# Altium footprint library PcbLib.PcbLib: 37 footprints (part 2 of 3)
Each footprint in its own frame and in the unit in brackets; x right, y up, seen from the top. Pads: shape width x height; smd on the part's side, far side on the other; paste and mask are expansions set on the pad; w line width, h text height; cw(c..) or ccw(c..) is an arc to the next point about the centre after c.
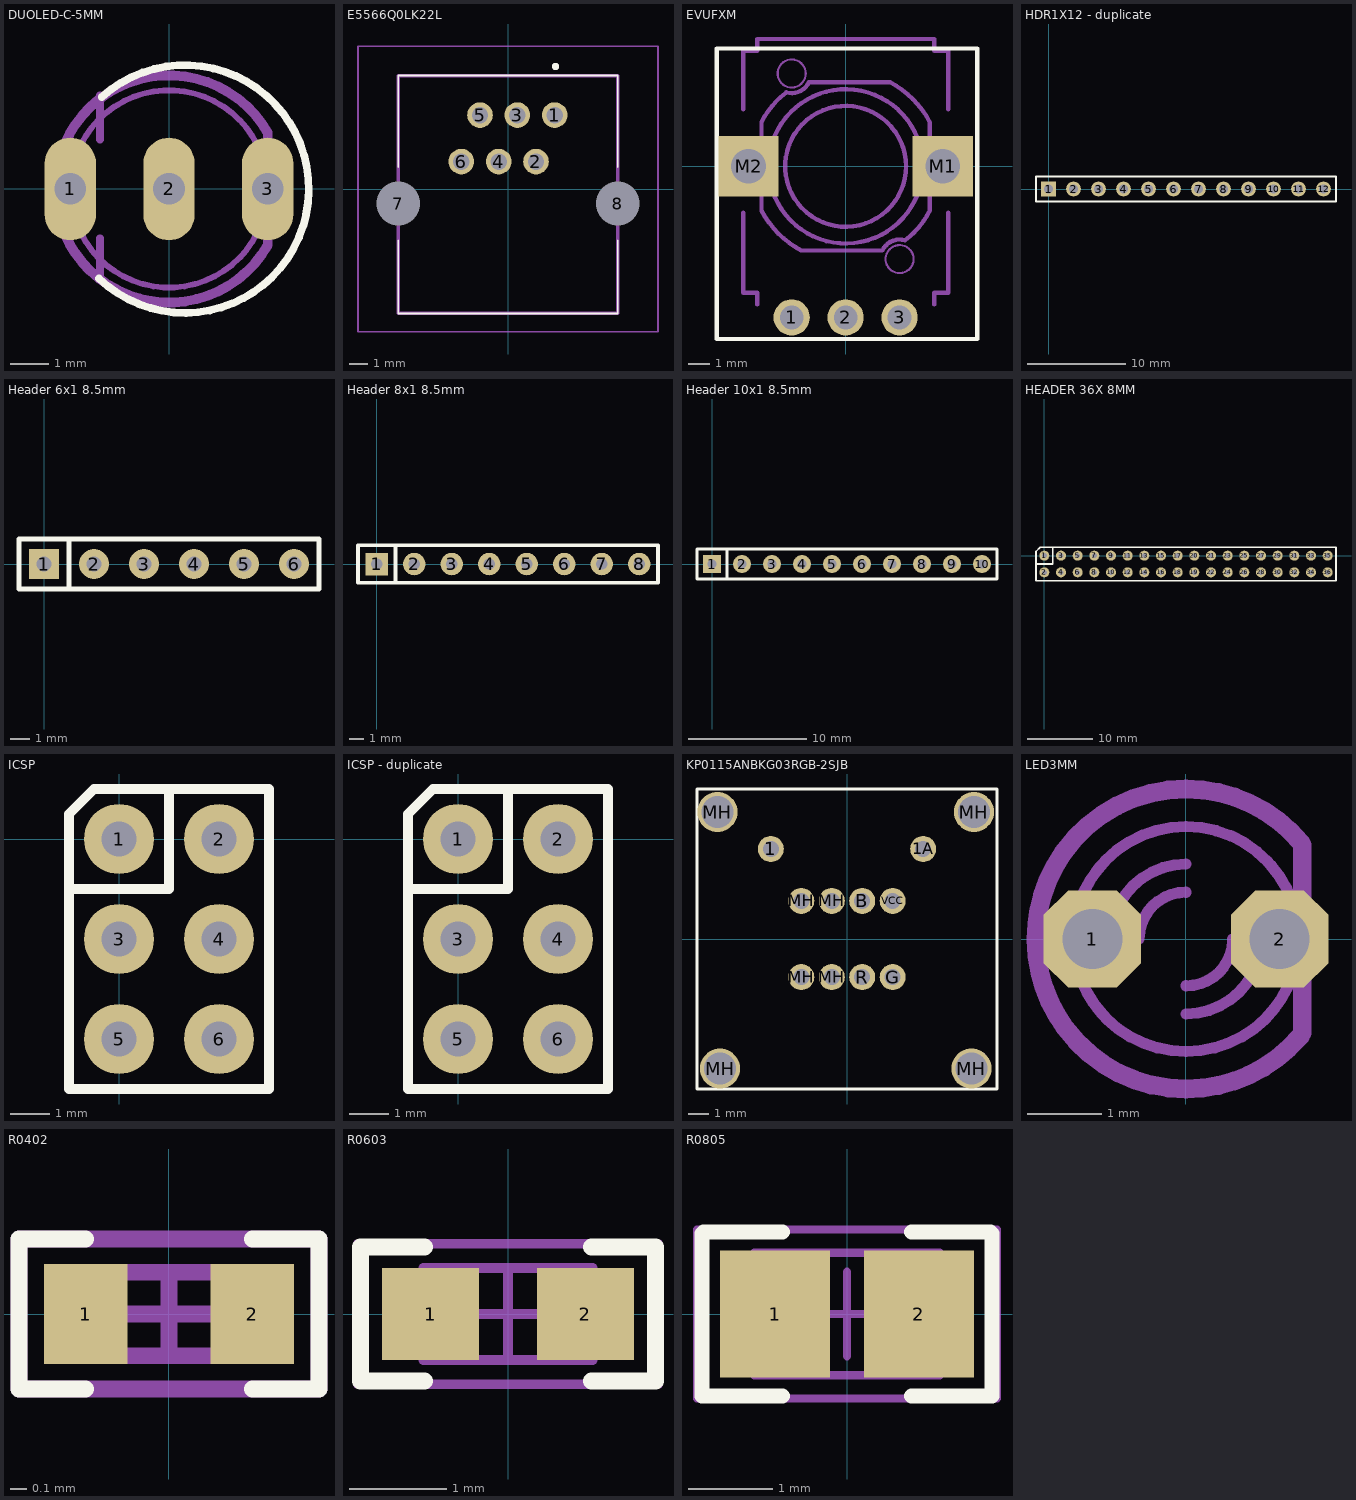
[diagram p1: the footprints below, top view; thin cyan lines are the x and y axes]

## DUOLED-C-5MM [mil] "DUOLED-C-5MM"
pads (3):
  oval 52x104 / inner round 60 / far side oval 52x104 hole 32: 1(-100,0) 2(0,0) 3(100,0)
Top Overlay:
  lines w7.87: -70.87,-90.7 ccw(c16.04,-0.1) -68.19,93
Mechanical 3:
  lines w7.87: -70,-90 -70,-50 ; -70,50 -70,95
Mechanical 7:
  lines w6: -94,-34 ccw(c0,0) 94,-34 ; -94,34 cw(c0,0) 94,34
  lines w10: -110,-34 ccw(c0,0.01) 100.03,-57.02 ; -109.97,33.99 cw(c0,0.01) 100,57 100,35 ; 100,-57 100,-35
3D body "59.STEP": height 496.06, standoff -807.09, extent -113.78,-116.04 116.14,116.03

## E5566Q0LK22L [mm]
pads (8):
  round 1.4 hole 0.9: 1(2.55,4.04) 2(1.53,1.5) 3(0.51,4.04) 4(-0.51,1.5) 5(-1.53,4.04) 6(-2.55,1.5)
  round 1.2 hole 2.4 unplated: 7(-6,-0.8) 8(6,-0.8)
Top Overlay:
  lines w0.1: -6,-2.8 -6,-6.8 6,-6.8 6,-2.8 ; -6,1.2 -6,6.2 6,6.2 6,1.2
  lines w0.2: 2.5,6.7 ccw(c2.6,6.7) 2.7,6.7 ccw(c2.6,6.7) 2.5,6.7
Mechanical 13:
  lines w0.2: -6,-6.8 -6,6.2 6,6.2 6,-6.8 -6,-6.8
Mechanical 15:
  lines w0.1: -8.2,-7.8 -8.2,7.8 8.2,7.8 8.2,-7.8 -8.2,-7.8
3D body "E5566-Q0LK22-L.stp": height 14.1, standoff -5, extent -7.091,-6.8 7.1,6.2

## EVUFXM [mil] "EVUFXM"
pads (5):
  round 66 / inner round 60 / far side round 66 hole 43.31: 1(-98.43,-275.59) 2(0,-275.59) 3(98.43,-275.59)
  rect 110.24x110.24 / inner rect 60x60 / far side rect 110.24x110.24 hole 62.99: M1(177.17,0) M2(-177.17,0)
Top Overlay:
  lines w7.87: -235,-315 -235,85 -235,215 240,215 240,-315 -235,-315
Mechanical 2:
  lines w0: -208.66,-41.34 -145.67,-41.34 -145.67,41.34 -208.66,41.34 -208.66,-41.34 ; 145.67,-41.34 208.66,-41.34 208.66,41.34 145.67,41.34 145.67,-41.34
Mechanical 7:
  circle w4: c98.43,-169.29 r25.59
  circle w8: c0,0 r110.24
  circle w8: c0,0 r140.75
  circle w4: c-98.43,169.29 r25.59
  lines w8: -187.01,-84.65 -187.01,-230.32 -161.42,-230.32 -161.42,-251.97 ; -187.01,104.33 -187.01,210.63 -161.42,210.63 -161.42,232.28 161.42,232.28 161.42,210.63 187.01,210.63 187.01,104.33 ; 161.42,-251.97 161.42,-230.32 187.01,-230.32 187.01,-84.65 ; -153.54,-80.71 ccw(c-0.01,-0.01) -80.71,-153.54 66.93,-153.54 cw(c98.73,-168.8) 108.27,-134.84 ccw(c12.25,-8.54) 153.54,-80.71 153.54,80.71 ccw(c0.01,0.01) 80.71,153.54 -66.93,153.54 cw(c-98.73,168.8) -108.27,134.84 ccw(c-12.25,8.54) -153.54,80.71 -153.54,-80.71
3D body "ALPHA-RD901F-40.step": height 1182.85, standoff -141.73, extent -227.07,-279.98 226.81,206.24

## HDR1X12 - duplicate [mm] "Connector; Header; 12 Position"
pads (12):
  rect 1.5x1.5 hole 0.9: 1(0,0)
  round 1.5 hole 0.9: 2(2.54,0) 3(5.08,0) 4(7.62,0) 5(10.16,0) 6(12.7,0) 7(15.24,0) 8(17.78,0) 9(20.32,0) 10(22.86,0) 11(25.4,0) 12(27.94,0)
Top Overlay:
  lines w0.2: -1.27,-1.27 29.21,-1.27 29.21,1.27 0.635,1.27 -1.27,1.27 -1.27,-1.27

## Header 6x1 8.5mm [mil] "Stackable 6 pin header"
pads (6):
  rect 60x60 hole 30: 1(0,0)
  round 60 hole 30: 2(100,0) 3(200,0) 4(300,0) 5(400,0) 6(500,0)
Top Overlay:
  lines w10: 50,-50 550,-50 550,50 50,50 ; 50,-50 50,50 ; 50,-50 -50,-50 -50,0 -50,50 50,50
3D body "Pin Header 1x6 TH Pitch 2.54mm.stp": height 125.98, standoff -373.85, extent -50,-50 550,50

## Header 8x1 8.5mm [mil] "Stackable 8 pin header"
pads (8):
  rect 60x60 hole 30: 1(0,0)
  round 60 hole 30: 2(100,0) 3(200,0) 4(300,0) 5(400,0) 6(500,0) 7(600,0) 8(700,0)
Top Overlay:
  lines w10: 50,-50 50,50 ; -50,-50 750,-50 750,50 -50,50 -50,-50
3D body "Pin Header 1x8 TH Pitch 2.54mm.stp": height 125.98, standoff -373.85, extent -50,-50 750,50

## Header 10x1 8.5mm [mil] "Stackable 10 pin header"
pads (10):
  rect 60x60 hole 30: 1(0,0)
  round 60 hole 30: 2(100,0) 3(200,0) 4(300,0) 5(400,0) 6(500,0) 7(600,0) 8(700,0) 9(800,0) 10(900,0)
Top Overlay:
  lines w10: 50,-50 50,50 ; 50,-50 950,-50 950,50 50,50 ; 50,-50 -50,-50 -50,50 50,50
3D body "Pin Header 1x10 TH Pitch 2.54mm.stp": height 125.98, standoff -373.85, extent -50,-50 950,50

## HEADER 36X 8MM [mil] "Stackable 10 pin header"
pads (36):
  round 60 hole 30: 1(0,0) 2(0,-100) 3(100,0) 4(100,-100) 5(200,0) 6(200,-100) 7(300,0) 8(300,-100) 9(400,0) 10(400,-100) 11(500,0) 12(500,-100) 13(600,0) 14(600,-100) 15(700,0) 16(700,-100) 17(800,0) 18(800,-100) 19(900,-100) 20(900,0) 21(1000,0) 22(1000,-100) 23(1100,0) 24(1100,-100) 25(1200,0) 26(1200,-100) 27(1300,0) 28(1300,-100) 29(1400,0) 30(1400,-100) 31(1500,0) 32(1500,-100) 33(1600,0) 34(1600,-100) 35(1700,0) 36(1700,-100)
Top Overlay:
  lines w10: -50,-50 50,-50 50,50 ; -50,-150 -50,25 -25,50 1750,50 1750,-150 -50,-150
3D body "Pin Header 1x8 TH Pitch 2.54mm.stp": height 125.98, standoff -373.85, extent 950,-150 1750,-50
3D body "Pin Header 1x8 TH Pitch 2.54mm.stp": height 125.98, standoff -373.85, extent 950,-50 1750,50
3D body "Pin Header 1x10 TH Pitch 2.54mm.stp": height 125.98, standoff -373.85, extent -50,-150 950,-50
3D body "Pin Header 1x10 TH Pitch 2.54mm.stp": height 125.98, standoff -373.85, extent -50,-50 950,50

## ICSP [mil]
pads (6):
  round 70 hole 35.43: 1(0,0) 2(100,0) 3(0,-100) 4(100,-100) 5(0,-200) 6(100,-200)
Top Overlay:
  lines w10: -50,-50 50,-50 50,50 ; -50,-250 -50,25 -25,50 150,50 150,-250 -50,-250

## ICSP - duplicate [mil]
pads (6):
  round 70 hole 35.43: 1(0,0) 2(100,0) 3(0,-100) 4(100,-100) 5(0,-200) 6(100,-200)
Top Overlay:
  lines w10: -50,-50 50,-50 50,50 ; -50,-250 150,-250 150,50 -25,50 -50,25 -50,-250

## KP0115ANBKG03RGB-2SJB [mm] "KP0115ANBKG03RGB-2SJB"
pads (14):
  round 1.3 hole 0.8: 1(-3.81,4.5) 1A(3.81,4.5) B(0.762,1.905) G(2.286,-1.905) MH(-2.286,-1.905) MH(-2.286,1.905) MH(-0.762,-1.905) MH(-0.762,1.905) R(0.762,-1.905) VCC(2.286,1.905)
  round 2 hole 1.6: MH(-6.477,6.35) MH(-6.35,-6.477) MH(6.223,-6.477) MH(6.35,6.35)
Top Overlay:
  circle w0.127: c6.35,6.35 r0.75
  circle w0.127: c-6.35,6.35 r0.75
  circle w0.127: c6.35,-6.35 r0.75
  circle w0.127: c-6.35,-6.35 r0.75
  lines w0.127: -7.5,-7.5 7.5,-7.5 7.5,7.5 -7.5,7.5 -7.5,-7.5
3D body "KP0115ANBKG03RGB-2SJB.stp": height 23.11, standoff -3.89, extent -7.518,-7.506 7.493,7.506

## LED3MM [mil] "LED3MM"
pads (2):
  oct 52x52 / inner oct 60x60 / far side oct 52x52 hole 32: 1(-50,0) 2(50,0)
Mechanical 3:
  lines w6: -46.09,38.41 ccw(c0,-0.01) -60,0 ccw(c0,-0.01) -44.85,-39.86 ; -40,0 cw(c0,0) 0,40 ; -25,0 cw(c0,0) 0,25 ; 0,-40 ccw(c0,0) 40,0 ; 0,-25 ccw(c0,0) 25,0 ; 45.56,39.05 cw(c0,0.01) 60,0 cw(c0,0.01) 46.09,-38.41
  lines w10: -70.44,37.93 ccw(c0,0.01) -80,0 ccw(c0,0) -68.13,-41.93 ; 62,-50 62,50
Mechanical 7:
  lines w6: -48,36 cw(c0,0) 0,60 cw(c-0.01,0) 48.82,34.87 ; -47.36,-36.83 ccw(c0.01,0) 0,-60 ccw(c-0.01,0) 47.36,-36.83
  lines w10: -70.59,37.65 cw(c0,0) 0,80 cw(c0.01,0) 61.46,51.22 ; -69.46,-39.69 ccw(c0,0) 0,-80 ccw(c0,0) 61.07,-51.68
3D body "WP7113.STEP": height 614.17, standoff -39.37, extent -116.13,-116.14 98.44,116.14

## PCBComponent_1 [mil]

## R0402 [mm]
height 0.4
pads (2):
  rect 0.5x0.6 smd mask+0.1: 1(-0.5,0) 2(0.5,0)
Top Overlay:
  lines w0.1: -0.5,-0.45 -0.9,-0.45 -0.9,0.45 -0.5,0.45 ; 0.5,-0.45 0.9,-0.45 0.9,0.45 0.5,0.45
Mechanical 13:
  lines w0.1: -0.525,-0.25 -0.525,0.25 0.525,0.25 0.525,-0.25 -0.525,-0.25
Mechanical 15:
  lines w0.1: -0.25,0 0.25,0 ; 0,-0.25 0,0.25 ; -0.9,-0.45 -0.9,0.45 0.9,0.45 0.9,-0.45 -0.9,-0.45
3D body "RES0402.STEP": height 0.33, standoff -0.03, extent -0.5,-0.255 0.5,0.255

## R0603 [mm] "0603 from SM-752 data"
height 0.85
pads (2):
  rect 1x0.95 smd: 1(-0.8,0) 2(0.8,0)
Top Overlay:
  lines w0.178: -0.864,-0.691 -1.524,-0.691 -1.524,0.693 -0.864,0.693 ; 0.864,-0.691 1.524,-0.691 1.524,0.693 0.864,0.693
Mechanical 5:
  lines w0.1: -1.55,-0.725 1.55,-0.725 1.55,0.725 -1.55,0.725 -1.55,-0.725
  text ".Designator" at -1.397,-0.381 h0.76
Mechanical 13:
  lines w0.1: -0.55,-0.475 -0.55,0.475 ; 0.55,-0.475 0.55,0.475 ; -0.875,-0.475 -0.875,0.475 0.875,0.475 0.875,-0.475 -0.875,-0.475
Mechanical 15:
  lines w0.1: -0.475,0 0.475,0 ; 0,-0.475 0,0.475 ; -1.55,-0.725 -1.55,0.725 1.55,0.725 1.55,-0.725 -1.55,-0.725
3D body "RES 0603 (1608 metric).STEP": height 0.54, standoff -0.01, extent -0.875,-0.475 0.875,0.475

## R0805 [mm] "0805 from SM-752 data"
height 1.1
pads (2):
  rect 1.3x1.5 smd: 1(-0.85,0) 2(0.85,0)
Top Overlay:
  lines w0.178: -0.762,-0.968 -1.717,-0.968 -1.717,0.95 -1.699,0.968 -0.762,0.968 ; 0.762,-0.968 1.717,-0.968 1.717,0.95 1.699,0.968 0.762,0.968
Mechanical 5:
  lines w0.1: -1.775,-1 1.775,-1 1.775,1 -1.775,1 -1.775,-1
  text ".Designator" at -1.525,-0.425 h0.81
Mechanical 13:
  lines w0.1: -0.65,-0.725 -0.65,0.725 ; 0.65,-0.725 0.65,0.725 ; -1.1,-0.725 1.1,-0.725 1.1,0.725 -1.1,0.725 -1.1,-0.725
Mechanical 15:
  lines w0.1: -0.5,0 0.5,0 ; 0,-0.5 0,0.5 ; -1.775,-1 1.775,-1 1.775,1 -1.775,1 -1.775,-1
3D body "RES 0805 (2012 metric).STEP": height 0.69, standoff -0.01, extent -1.1,-0.675 1.1,0.675